# EAGLE library part 8_ARRAY (library res)
RES ARRAY 8 RES 10K OHM 1506
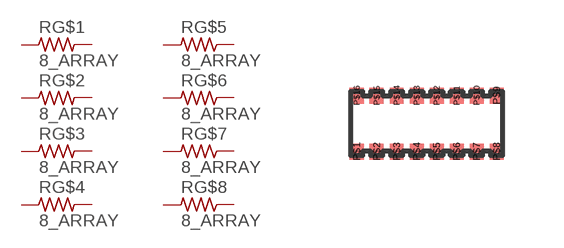
[diagram p0: symbol with the pads of EXB2HV; footprint EXB2HV]

Designator prefix R; gates G$1=RES G$2=RES G$3=RES G$4=RES G$5=RES G$6=RES G$7=RES G$8=RES

## 8_ARRAY10K.0.0625.5% (DIGIKEY: Y1103CT-ND; MPN: EXB-2HV103JV; PWR: 0.0625; SIZE: 1506; TOL: 5%; VALUE: 10K)  [EXB2HV]
P$1  G$1:1  pas
P$2  G$2:1  pas
P$3  G$3:1  pas
P$4  G$4:1  pas
P$5  G$5:1  pas
P$6  G$6:1  pas
P$7  G$7:1  pas
P$8  G$8:1  pas
P$9  G$8:2  pas
P$10  G$7:2  pas
P$11  G$6:2  pas
P$12  G$5:2  pas
P$13  G$4:2  pas
P$14  G$3:2  pas
P$15  G$2:2  pas
P$16  G$1:2  pas

## Footprint EXB2HV (pad centres in mm)
smd 0.35 x 0.4: P$1 -1.75,-0.7; P$2 -1.25,-0.7; P$3 -0.75,-0.7; P$4 -0.25,-0.7; P$5 0.25,-0.7; P$6 0.75,-0.7; P$7 1.25,-0.7; P$8 1.75,-0.7; P$9 1.75,0.7; P$10 1.25,0.7; P$11 0.75,0.7; P$12 0.25,0.7; P$13 -0.25,0.7; P$14 -0.75,0.7; P$15 -1.25,0.7; P$16 -1.75,0.7